# EAGLE library part CC2564MODACMOG (library CC2564MODACMOG_2)
Bluetooth Class 1.5 2.2V to 4.8V 4Mbps 35-Pin QFM Tray
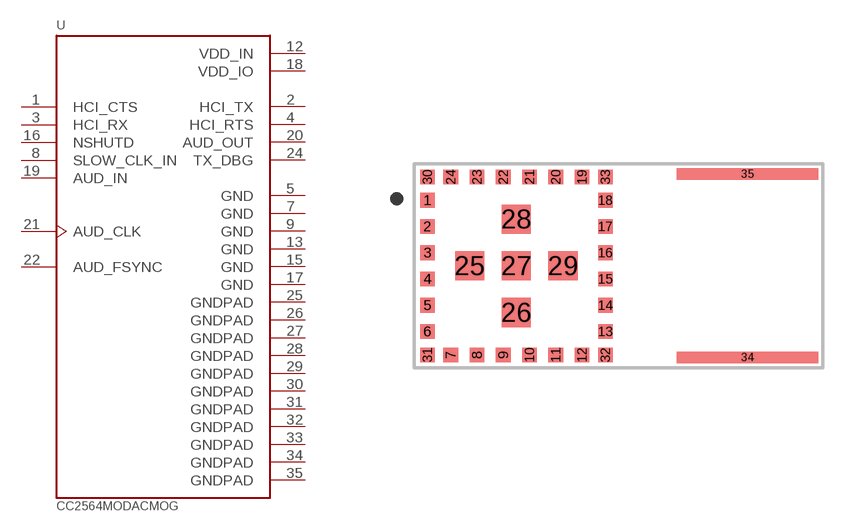
[diagram p0: symbol with the pads of XCVR_CC2564MODACMOG; footprint XCVR_CC2564MODACMOG]

Designator prefix U

## CC2564MODACMOG (Description: Bluetooth 4.1 with Basic Rate, Enhanced Data Rate, Low Energy module with integrated antenna 35-QFM -30 to 85; Digi-Key_Part_Number: 296-44311-ND; MF: Texas Instruments; MP: CC2564MODACMOG; Package: NON-STANDARD-35 Texas Instruments; Purchase-URL: https://pricing.snapeda.com/search/part/CC2564MODACMOG/?ref=eda)  [XCVR_CC2564MODACMOG]
1  HCI_CTS  in
2  HCI_TX  out
3  HCI_RX  in
4  HCI_RTS  out
5  GND  pwr
7  GND  pwr
8  SLOW_CLK_IN  in
9  GND  pwr
12  VDD_IN
13  GND  pwr
15  GND  pwr
16  NSHUTD  in
17  GND  pwr
18  VDD_IO  in
19  AUD_IN  in
20  AUD_OUT  out
21  AUD_CLK
22  AUD_FSYNC
24  TX_DBG  out
25  GNDPAD  pwr
26  GNDPAD  pwr
27  GNDPAD  pwr
28  GNDPAD  pwr
29  GNDPAD  pwr
30  GNDPAD  pwr
31  GNDPAD  pwr
32  GNDPAD  pwr
33  GNDPAD  pwr
34  GNDPAD  pwr
35  GNDPAD  pwr

## Footprint XCVR_CC2564MODACMOG (pad centres in mm)
smd 0.5 x 0.5: 1 -6.55,2.25; 2 -6.55,1.35; 3 -6.55,0.45; 4 -6.55,-0.45; 5 -6.55,-1.35; 6 -6.55,-2.25; 7 -5.75,-3.05; 8 -4.85,-3.05; 9 -3.95,-3.05; 10 -3.05,-3.05; 11 -2.15,-3.05; 12 -1.25,-3.05; 13 -0.45,-2.25; 14 -0.45,-1.35; 15 -0.45,-0.45; 16 -0.45,0.45; 17 -0.45,1.35; 18 -0.45,2.25; 19 -1.25,3.05; 20 -2.15,3.05; 21 -3.05,3.05; 22 -3.95,3.05; 23 -4.85,3.05; 24 -5.75,3.05; 30 -6.55,3.05; 31 -6.55,-3.05; 32 -0.45,-3.05; 33 -0.45,3.05
smd 1 x 1: 25 -5.1,0; 26 -3.5,-1.6; 27 -3.5,0; 28 -3.5,1.6; 29 -1.9,0
smd 4.85 x 0.4: 34 4.425,-3.135; 35 4.425,3.15